# Altium footprint library CAP200.PcbLib: 1 footprints
Each footprint in its own frame and in the unit in brackets; x right, y up, seen from the top. Pads: shape width x height; smd on the part's side, far side on the other; paste and mask are expansions set on the pad; w line width, h text height; cw(c..) or ccw(c..) is an arc to the next point about the centre after c.
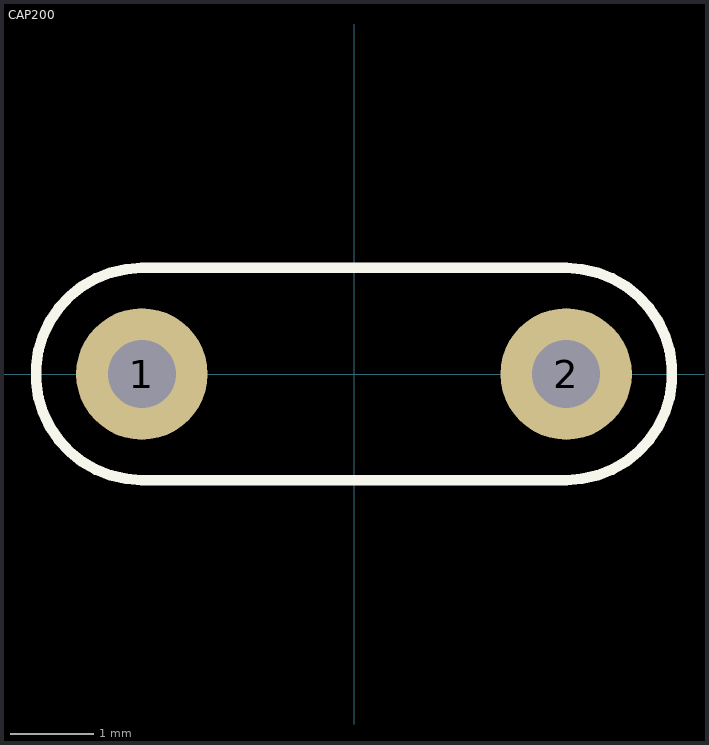
[diagram p0: the footprint, top view; thin cyan lines are the x and y axes]

## CAP200 [mil]
pads (2):
  round 62 hole 32: 1(-100,0) 2(100,0)
Top Overlay:
  lines w5: -100,-50 cw(c-100,0) -100,50 100,50 cw(c100,0) 100,-50 -100,-50
3D body: height 245.67, standoff -54.33, extent -110,-46 110,44